# EAGLE library part NJM2521D (library myradio)
3 Input 1 Output Audio Switch
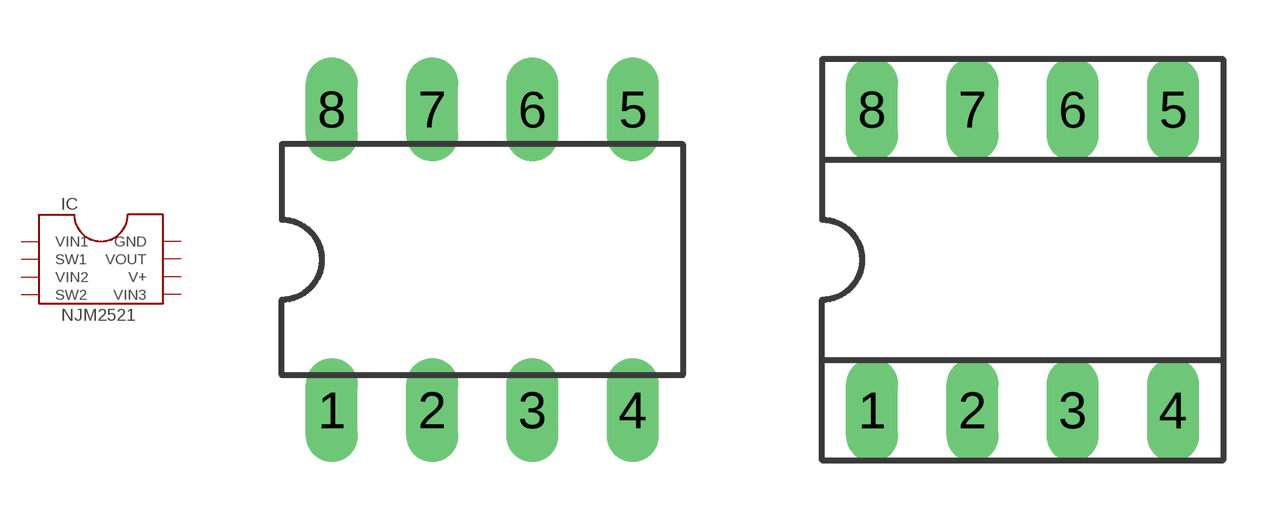
[diagram p0: symbol with the pads of DIL08; footprints DIL08, SOCKET-08]

Designator prefix IC

## NJM2521D  [DIL08]
1  VIN1  in
2  SW1  in
3  VIN2  in
4  SW2  in
5  VIN3  in
6  V+  pwr
7  VOUT  out
8  GND  pwr

## NJM2521DS  [SOCKET-08]
Pads as for DIL08

## Footprint DIL08 (pad centres in mm)
Dual In Line Package
drill 0.813 long: 1 -3.81,-3.81; 2 -1.27,-3.81; 3 1.27,-3.81; 4 3.81,-3.81; 5 3.81,3.81; 6 1.27,3.81; 7 -1.27,3.81; 8 -3.81,3.81

## Footprint SOCKET-08 (pad centres in mm)
Dual In Line Socket
drill 0.813 long: 1 -3.81,-3.81; 2 -1.27,-3.81; 3 1.27,-3.81; 4 3.81,-3.81; 5 3.81,3.81; 6 1.27,3.81; 7 -1.27,3.81; 8 -3.81,3.81